# Altium schematic symbol library Connector.SchLib: 2 symbols
Pins are listed as number, name and electrical type; pins without a type are passive.

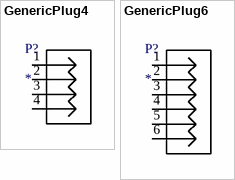
[diagram p0: symbols GenericPlug4 to GenericPlug6]

## GenericPlug4
designator P?
Generic 4-position plug; Name: *; Part Number: *
pins: 1, 2, 3, 4

## GenericPlug6
designator P?
Generic 6-position plug; Name: *; Part Number: *
pins: 1, 2, 3, 4, 5, 6